# Altium schematic symbol library Schlib1.SchLib: 1 symbol
Pins are listed as number, name and electrical type; pins without a type are passive.

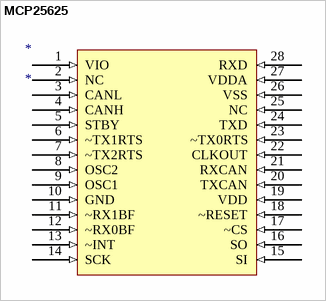
[diagram p0: symbol MCP25625]

## MCP25625
designator *
pins: 1 VIO (in), 2 NC (in), 3 CANL (in), 4 CANH (in), 5 STBY (in), 6 ~TX1RTS (in), 7 ~TX2RTS (in), 8 OSC2 (in), 9 OSC1 (in), 10 GND (in), 11 ~RX1BF (in), 12 ~RX0BF (in), 13 ~INT (in), 14 SCK (in), 15 SI (in), 16 SO (in), 17 ~CS (in), 18 ~RESET (in), 19 VDD (in), 20 TXCAN (in), 21 RXCAN (in), 22 CLKOUT (in), 23 ~TX0RTS (in), 24 TXD (in), 25 NC (in), 26 VSS (in), 27 VDDA (in), 28 RXD (in)